# EAGLE library part MAX2031 (library Lasser)
MAXIM MAX2031 Mixer High Linearity 815-1000MHz Mixer with LO switch and internal Baluns for RF and LO
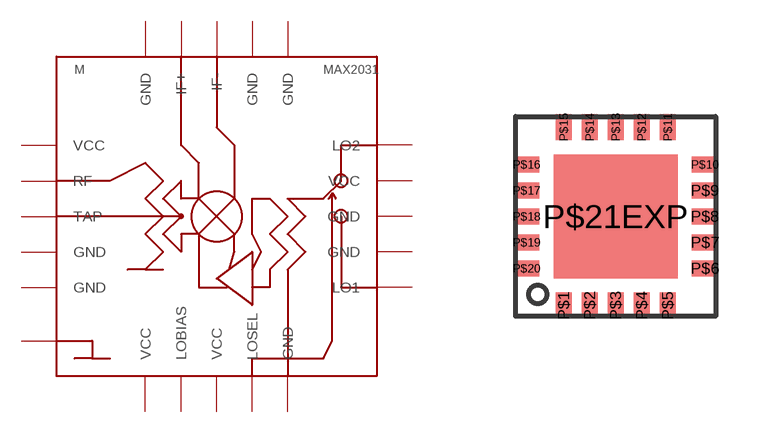
[diagram p2: symbol with the pads of THINQFN20; footprint THINQFN20]

Designator prefix M

## MAX2031  [THINQFN20]
P$1  VCC
P$2  RF
P$3  TAP
P$4  GND
P$5  GND
P$6  VCC
P$7  LOBIAS
P$8  VCC
P$9  LOSEL
P$10  GND
P$11  LO1
P$12  GND
P$13  GND
P$14  VCC
P$15  LO2
P$16  GND
P$17  GND
P$18  IF-
P$19  IF+
P$20  GND
P$21EXP

## Footprint THINQFN20 (pad centres in mm)
smd 0.4 x 0.65: P$1 -1.3,-2.23; P$2 -0.65,-2.23; P$3 0,-2.23; P$4 0.65,-2.23; P$5 1.3,-2.23; P$11 1.3,2.23; P$12 0.65,2.23; P$13 0,2.23; P$14 -0.65,2.23; P$15 -1.3,2.23
smd 0.65 x 0.4: P$6 2.23,-1.3; P$7 2.23,-0.65; P$8 2.23,0; P$9 2.23,0.65; P$10 2.23,1.3; P$16 -2.23,1.3; P$17 -2.23,0.65; P$18 -2.23,0; P$19 -2.23,-0.65; P$20 -2.23,-1.3
smd 3.1 x 3.1: P$21EXP 0,0